# Altium footprint library PO_SS_Lib.PcbLib: 41 footprints (part 2 of 3)
Each footprint in its own frame and in the unit in brackets; x right, y up, seen from the top. Pads: shape width x height; smd on the part's side, far side on the other; paste and mask are expansions set on the pad; w line width, h text height; cw(c..) or ccw(c..) is an arc to the next point about the centre after c.
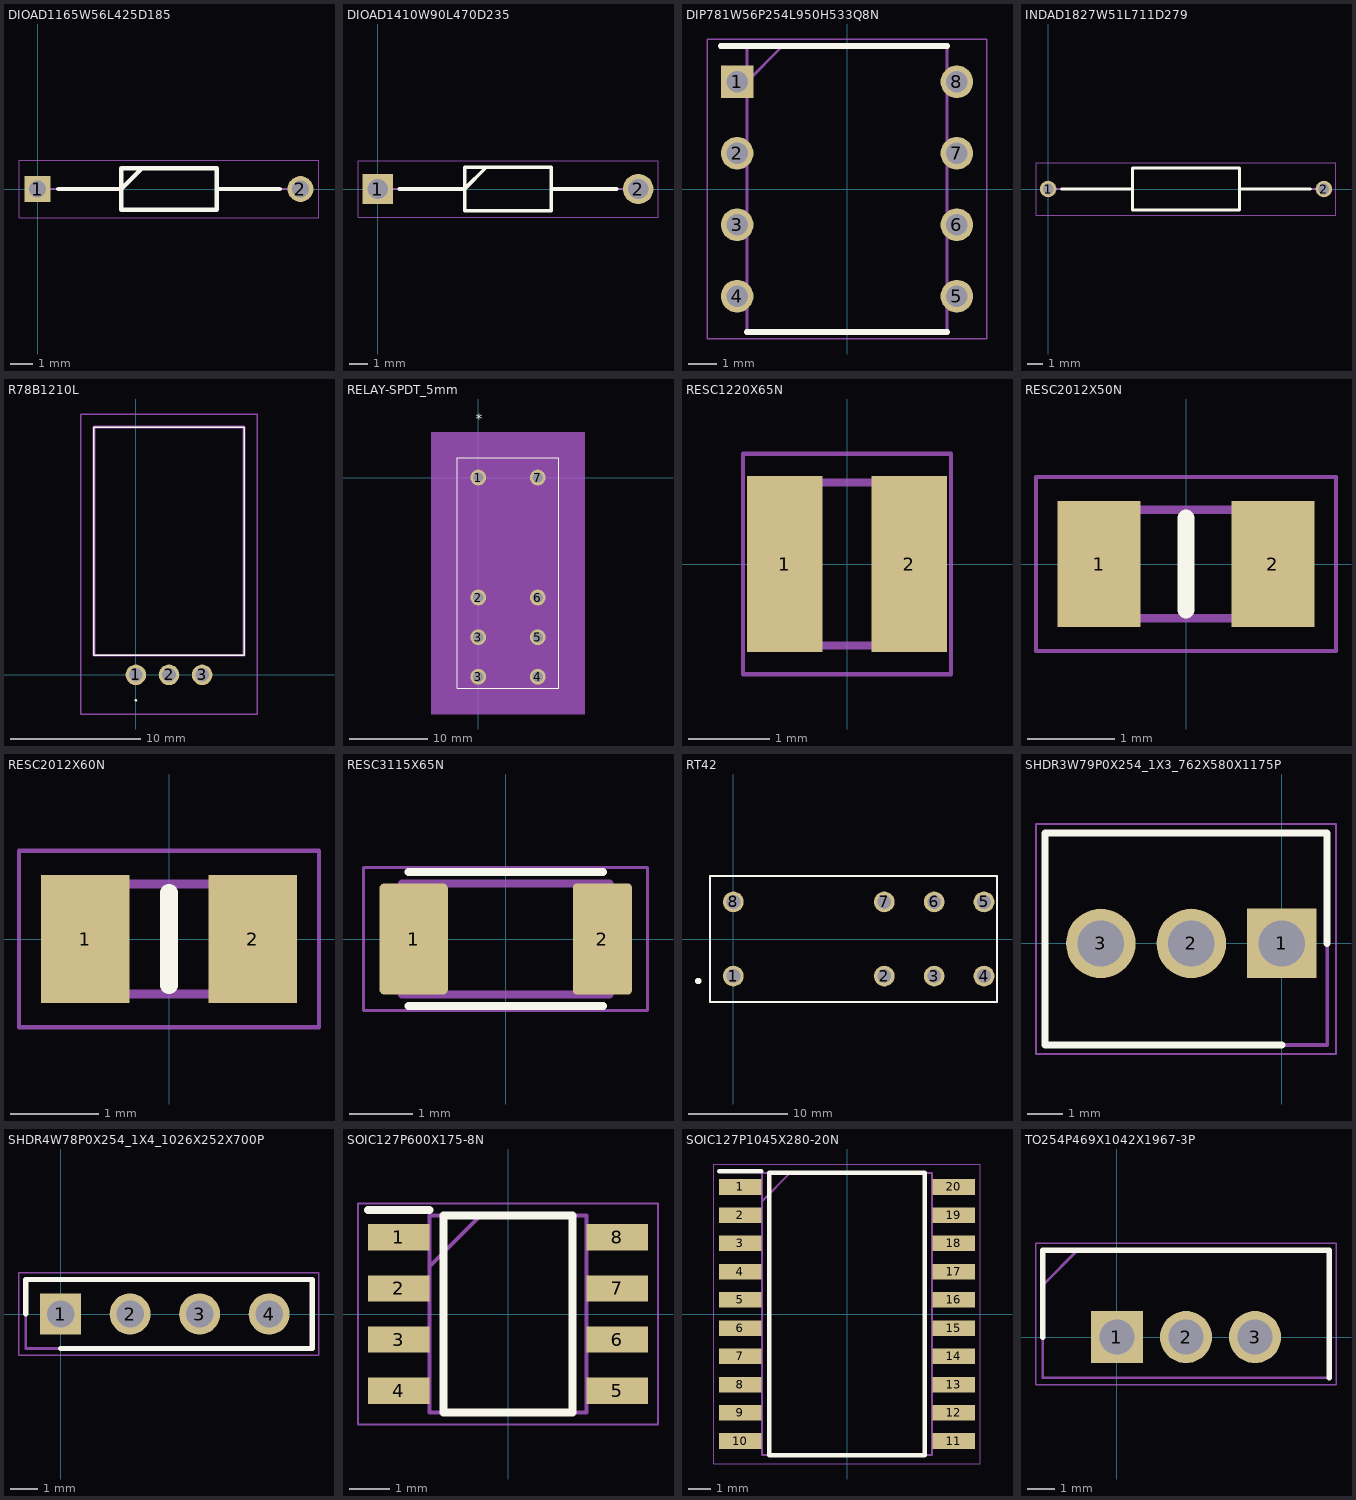
[diagram p1: the footprints below, top view; thin cyan lines are the x and y axes]

## DIOAD1165W56L425D185 [mm]
pads (2):
  rect 1.15x1.15 hole 0.75: 1(0,0)
  round 1.15 hole 0.75: 2(11.7,0)
Top Overlay:
  lines w0.2: 0.925,0 3.725,0 4.65,0.925 ; 7.975,0 10.775,0 ; 3.725,-0.925 7.975,-0.925 7.975,0.925 3.725,0.925 3.725,-0.925
Mechanical 13:
  lines w0.1: 0,0 3.725,0 4.65,0.925 ; 7.975,0 11.7,0 ; 3.725,-0.925 7.975,-0.925 7.975,0.925 3.725,0.925 3.725,-0.925
Mechanical 15:
  lines w0.05: -0.825,-1.275 12.525,-1.275 12.525,1.275 -0.825,1.275 -0.825,-1.275
3D body "1N4148.stp": height 1.84, standoff -1.85, extent -0.278,-0.923 11.93,0.923

## DIOAD1410W90L470D235 [mm]
pads (2):
  rect 1.65x1.65 hole 1.1: 1(0,0)
  round 1.65 hole 1.1: 2(14.1,0)
Top Overlay:
  lines w0.2: 1.175,0 4.7,0 5.875,1.175 ; 9.4,0 12.925,0 ; 4.7,-1.175 4.7,1.175 9.4,1.175 9.4,-1.175 4.7,-1.175
Mechanical 13:
  lines w0.1: 0,0 4.7,0 5.875,1.175 ; 9.4,0 14.1,0 ; 4.7,-1.175 4.7,1.175 9.4,1.175 9.4,-1.175 4.7,-1.175
Mechanical 15:
  lines w0.05: -1.075,-1.525 -1.075,1.525 15.175,1.525 15.175,-1.525 -1.075,-1.525
3D body "1N4007-B.stp": height 2.69, standoff -2.7, extent -0.446,-1.347 14.55,1.347

## DIP781W56P254L950H533Q8N [mm]
pads (8):
  rect 1.159x1.159 hole 0.759: 1(-3.905,3.81)
  round 1.159 hole 0.759: 2(-3.905,1.27) 3(-3.905,-1.27) 4(-3.905,-3.81) 5(3.905,-3.81) 6(3.905,-1.27) 7(3.905,1.27) 8(3.905,3.81)
Top Overlay:
  lines w0.2: -4.485,5.08 3.556,5.08 ; -3.556,-5.08 3.556,-5.08
Mechanical 13:
  lines w0.1: -3.556,3.81 -2.286,5.08 ; -3.556,-5.08 -3.556,5.08 3.556,5.08 3.556,-5.08 -3.556,-5.08
Mechanical 15:
  lines w0.05: -4.957,-5.33 -4.957,5.33 4.957,5.33 4.957,-5.33 -4.957,-5.33
3D body "MCP6002-I_P.stp": height 5.33, standoff -3.5, extent -4.045,-4.75 4.045,4.75

## INDAD1827W51L711D279 [mm]
pads (2):
  round 1.1 hole 0.7: 1(0,0) 2(18.3,0)
Top Overlay:
  lines w0.2: 0.9,0 5.595,0 ; 12.705,0 17.4,0 ; 5.595,-1.395 5.595,1.395 12.705,1.395 12.705,-1.395 5.595,-1.395
Mechanical 13:
  lines w0.1: 0,0 5.595,0 ; 12.705,0 18.3,0 ; 5.595,-1.395 5.595,1.395 12.705,1.395 12.705,-1.395 5.595,-1.395
Mechanical 15:
  lines w0.05: -0.8,-1.745 -0.8,1.745 19.1,1.745 19.1,-1.745 -0.8,-1.745
3D body "78F100J-RC.stp": height 2.78, standoff -2.79, extent -0.253,-1.392 18.525,1.392

## R78B1210L [mm]
pads (3):
  round 1.575 hole 1.05: 1(0,0) 2(2.54,0) 3(5.08,0)
Top Overlay:
  lines w0.1: -3.21,1.5 8.29,1.5 8.29,19 -3.21,19 -3.21,1.5 ; 0,-2 ccw(c0,-1.95) 0,-1.9 ccw(c0,-1.95) 0,-2
Mechanical 13:
  lines w0.2: -3.21,1.5 8.29,1.5 8.29,19 -3.21,19 -3.21,1.5
Mechanical 15:
  lines w0.1: -4.21,-3 9.29,-3 ; -4.21,-3 -4.21,20 ; -4.21,-3 9.29,-3 ; -4.21,-3 -4.21,20 ; -4.21,20 9.29,20 ; -4.21,20 9.29,20 ; 9.29,-3 9.29,20 ; 9.29,-3 9.29,20
3D body "R-78B5.0-1.0L.stp": height 8.51, standoff -4.09, extent -3.26,-0.17 8.34,18.83

## RELAY-SPDT_5mm [mil]
pads (8):
  round 79 hole 51 mask+0: 1(0,0) 2(0,-600.79) 3(0,-997.64) 3(0,-799.21) 4(297.64,-997.64) 5(297.64,-799.21) 6(297.64,-600.79) 7(297.64,0)
Top Overlay:
  lines w6: -106.18,-1054 403.82,-1054 403.82,98 -106.18,98 -106.18,-1054
  text "*" at -12.5,268.28 h50
Mechanical 5:
  region: 533.82,-1184 -236.18,-1184 -236.18,228 533.82,228
Mechanical 13:
  lines w0: 136.82,93 ccw(c148.82,93) 160.82,93
  lines w1: -101.18,-1049 398.82,-1049 398.82,93 -101.18,93 -101.18,-1049
  text "*" at -12.5,82.28 h50
Mechanical 15:
  region: 408.82,-1059 -111.18,-1059 -111.18,103 408.82,103
  region: 398.82,-1049 -101.18,-1049 -101.18,93 398.82,93
  lines w6: -111.18,-1059 -111.18,103 408.82,103 408.82,-1059 -111.18,-1059
3D body "RELAY-SPDT_5mm.step": height 618.11, standoff -100, extent -101.18,-1049.02 398.82,92.99

## RESC1220X65N [mm]
pads (2):
  rect 0.925x2.15 smd: 1(-0.762,0) 2(0.762,0)
Mechanical 13:
  lines w0.1: -0.6,-1 0.6,-1 0.6,1 -0.6,1 -0.6,-1
Mechanical 15:
  lines w0.05: -1.275,-1.35 1.275,-1.35 1.275,1.35 -1.275,1.35 -1.275,-1.35
3D body "LTR10EZPJ101.stp": height 0.65, standoff 0, extent -0.6,-1 0.6,1

## RESC2012X50N [mm]
pads (2):
  rect 0.95x1.45 smd: 1(-1,0) 2(1,0)
Top Overlay:
  lines w0.2: 0,-0.525 0,0.525
Mechanical 13:
  lines w0.1: -1.025,-0.625 -1.025,0.625 1.025,0.625 1.025,-0.625 -1.025,-0.625
Mechanical 15:
  lines w0.05: -1.725,-1 -1.725,1 1.725,1 1.725,-1 -1.725,-1
3D body "CRCW08055K60JNEA.stp": height 0.5, standoff 0, extent -1.025,-0.625 1.025,0.625

## RESC2012X60N [mm]
pads (2):
  rect 1x1.45 smd: 1(-0.95,0) 2(0.95,0)
Top Overlay:
  lines w0.2: 0,-0.525 0,0.525
Mechanical 13:
  lines w0.1: -1,-0.625 1,-0.625 1,0.625 -1,0.625 -1,-0.625
Mechanical 15:
  lines w0.05: -1.7,-1 1.7,-1 1.7,1 -1.7,1 -1.7,-1
3D body "CR0805-FX-1002ELF.stp": height 0.5, standoff 0, extent -1,-0.625 1,0.625

## RESC3115X65N [mm]
pads (2):
  rrect14% 1.09x1.77 smd: 1(-1.465,0)
  rrect14% 0.94x1.77 smd: 2(1.54,0)
Top Overlay:
  lines w0.127: -1.55,-1.065 1.55,-1.065 ; -1.55,1.065 1.55,1.065
Mechanical 13:
  lines w0.127: -1.65,-0.88 1.65,-0.88 1.65,0.88 -1.65,0.88 -1.65,-0.88
Mechanical 15:
  lines w0.05: -2.26,-1.14 2.26,-1.14 2.26,1.14 -2.26,1.14 -2.26,-1.14

## RT42 [mm]
pads (8):
  round 2.1 hole 1.4: 1(0,-3.75) 2(15.26,-3.75) 3(20.3,-3.75) 4(25.34,-3.75) 5(25.34,3.75) 6(20.3,3.75) 7(15.26,3.75) 8(0,3.75)
Top Overlay:
  circle w0.4: c-3.547,-4.246 r0.126
  lines w0.2: -2.35,-6.35 26.65,-6.35 26.65,6.35 -2.35,6.35 -2.35,-6.35
Mechanical 13:
  lines w0.2: -2.35,-6.35 26.65,-6.35 26.65,6.35 -2.35,6.35 -2.35,-6.35
3D body "RT424005.stp": height 15.86, standoff -2.94, extent -2.21,-6.35 26.79,6.35

## SHDR3W79P0X254_1X3_762X580X1175P [mm]
pads (3):
  rect 1.95x1.95 hole 1.3: 1(0,0)
  round 1.95 hole 1.3: 2(-2.54,0) 3(-5.08,0)
Top Overlay:
  lines w0.2: 0,-2.85 -6.65,-2.85 -6.65,3.1 1.27,3.1 1.27,0
Mechanical 13:
  lines w0.1: -6.65,-2.85 -6.65,3.1 1.27,3.1 1.27,-2.85 -6.65,-2.85
Mechanical 15:
  lines w0.05: -6.9,-3.1 -6.9,3.35 1.52,3.35 1.52,-3.1 -6.9,-3.1
3D body "61900311121.stp": height 11.75, standoff -3.7, extent -6.35,-2.9 1.27,2.9

## SHDR4W78P0X254_1X4_1026X252X700P [mm]
pads (4):
  rect 1.5x1.5 hole 1: 1(0,0)
  round 1.5 hole 1: 2(2.54,0) 3(5.08,0) 4(7.62,0)
Top Overlay:
  lines w0.2: -1.27,0 -1.27,1.26 9.19,1.26 9.19,-1.26 0,-1.26
Mechanical 13:
  lines w0.1: -1.27,-1.26 9.19,-1.26 9.19,1.26 -1.27,1.26 -1.27,-1.26
Mechanical 15:
  lines w0.05: -1.52,-1.51 9.44,-1.51 9.44,1.51 -1.52,1.51 -1.52,-1.51
3D body "215297-4.stp": height 6.9, standoff -3.1, extent -1.21,-1.26 8.95,1.26

## SOIC127P600X175-8N [mm]
pads (8):
  rect 1.525x0.65 smd: 1(-2.712,1.905) 2(-2.712,0.635) 3(-2.712,-0.635) 4(-2.712,-1.905) 5(2.712,-1.905) 6(2.712,-0.635) 7(2.712,0.635) 8(2.712,1.905)
Top Overlay:
  lines w0.2: -3.475,2.58 -1.95,2.58 ; -1.6,-2.45 1.6,-2.45 1.6,2.45 -1.6,2.45 -1.6,-2.45
Mechanical 13:
  lines w0.1: -1.95,1.18 -0.68,2.45 ; -1.95,-2.45 1.95,-2.45 1.95,2.45 -1.95,2.45 -1.95,-2.45
Mechanical 15:
  lines w0.05: -3.725,-2.75 3.725,-2.75 3.725,2.75 -3.725,2.75 -3.725,-2.75
3D body "NE555DR.stp": height 1.75, standoff 0, extent -3,-2.45 3,2.45

## SOIC127P1045X280-20N [mm]
pads (20):
  rect 1.9x0.7 smd: 1(-4.8,5.715) 2(-4.8,4.445) 3(-4.8,3.175) 4(-4.8,1.905) 5(-4.8,0.635) 6(-4.8,-0.635) 7(-4.8,-1.905) 8(-4.8,-3.175) 9(-4.8,-4.445) 10(-4.8,-5.715) 11(4.8,-5.715) 12(4.8,-4.445) 13(4.8,-3.175) 14(4.8,-1.905) 15(4.8,-0.635) 16(4.8,0.635) 17(4.8,1.905) 18(4.8,3.175) 19(4.8,4.445) 20(4.8,5.715)
Top Overlay:
  lines w0.2: -5.75,6.415 -3.85,6.415 ; -3.5,-6.35 -3.5,6.35 3.5,6.35 3.5,-6.35 -3.5,-6.35
Mechanical 13:
  lines w0.1: -3.825,5.08 -2.555,6.35 ; -3.825,-6.35 -3.825,6.35 3.825,6.35 3.825,-6.35 -3.825,-6.35
Mechanical 15:
  lines w0.05: -6,-6.75 -6,6.75 6,6.75 6,-6.75 -6,-6.75
3D body "TM1637__SOP_.stp": height 2.8, standoff 0, extent -5.225,-6.35 5.225,6.35

## TO254P469X1042X1967-3P [mm]
pads (3):
  rect 1.92x1.92 hole 1.28: 1(0,0)
  round 1.92 hole 1.28: 2(2.54,0) 3(5.08,0)
Top Overlay:
  lines w0.2: -2.73,0 -2.73,3.195 7.81,3.195 7.81,-1.495
Mechanical 13:
  lines w0.1: -2.73,1.925 -1.46,3.195 ; -2.73,-1.495 -2.73,3.195 7.81,3.195 7.81,-1.495 -2.73,-1.495
Mechanical 15:
  lines w0.05: -2.98,-1.745 -2.98,3.445 8.06,3.445 8.06,-1.745 -2.98,-1.745
3D body "IRF9Z34NPBF.stp": height 18.84, standoff -17.51, extent -2.668,-1.495 7.748,3.195